# Altium integrated library National Semiconductor Interface.IntLib: 1433 symbols (part 42 of 51)
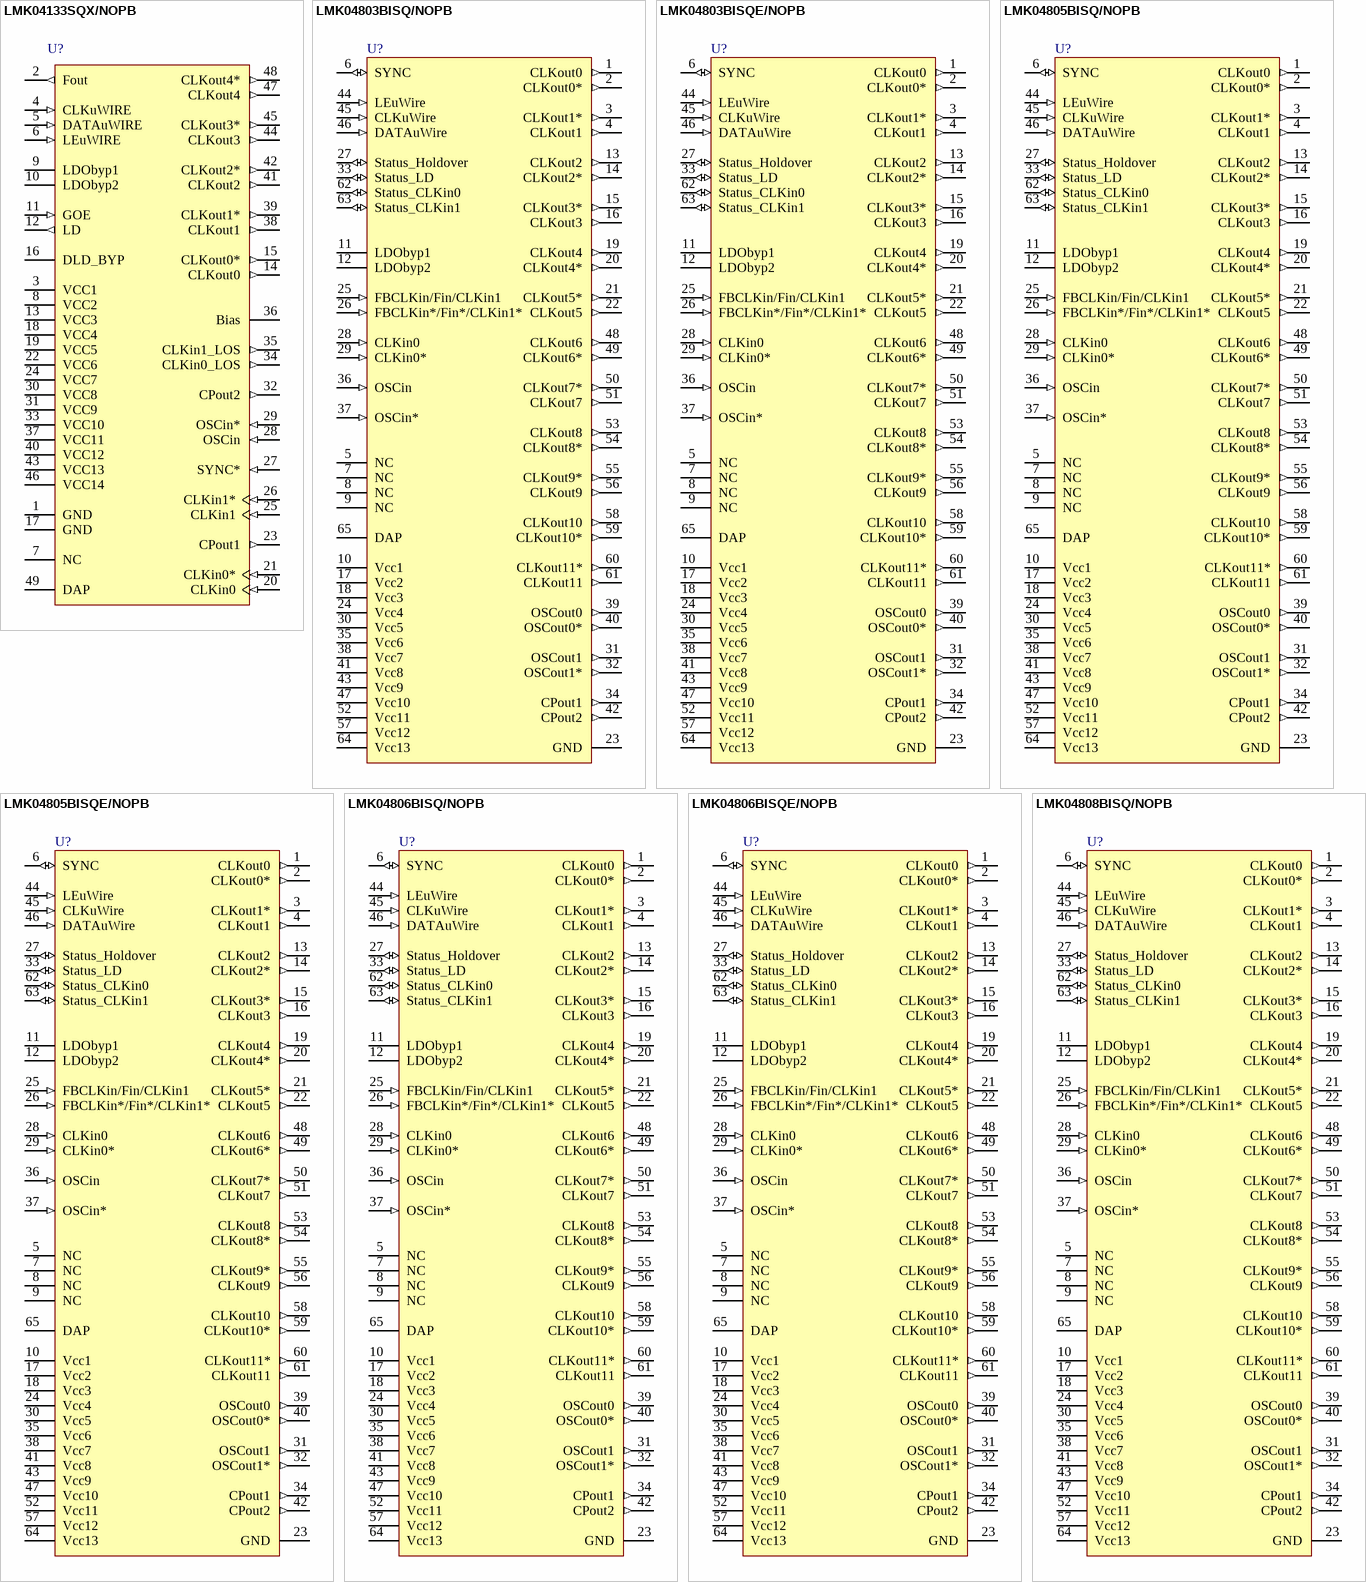
[diagram p165: symbols LMK04133SQX/NOPB to LMK04808BISQ/NOPB]

## LMK04806BISQE/NOPB
designator U?
Precision Clock Conditioners Low-Noise Clock Jitter Cleaner with Dual Loop PLLs, 2370-2600MHz VCO, 64-pin LLP, 250 Reel; PartNumber: LMK04806BISQE/NOPB; Manufacturer: National Semiconductor; PackageTopMarking: NS*UZXYTTE#*K04806BISQ; PowerWise: N; CompType: Interface IC; High-Reliability: Y; DatasheetVersion: Mar-2011; PackageVersion: revA, Apr-2006; PackageReference: SQA64A; PackageDescription: LLP, Quad, 9 x 9 x 0.8mm, 64 Lead, 0.5mm Pitch, No Pullback; RoHS: Y; PinCount: 64; ComponentLink1Description: Manufacturer URL; ComponentLink1URL: http://www.national.com/; ComponentLink2Description: LMK04800 Datasheet; ComponentLink2URL: http://www.national.com/ds/LM/LMK04800.pdf; ComponentLink3Description: LMK04800 Web Page; ComponentLink3URL: http://www.national.com/pf/LM/LMK04800.html; ComponentLink4Description: SQA64A Package Page; ComponentLink4URL: http://www.national.com/packaging/folders/sqa64a.html
footprint SQA64A (QFN, 64-Leads, Body 9x9mm, Pitch 0.5mm, Thermal Pad 7.2x7.2mm, NSC Recommended)
pins: 1 CLKout0 (out) "Clock output 0 (clock group 0).", 2 CLKout0* (out) "Clock output 0 (clock group 0).", 3 CLKout1* (out) "Clock output 1 (clock group 0).", 4 CLKout1 (out) "Clock output 1 (clock group 0).", 5 NC (power) "No Connection. This pin must be left floating.", 6 SYNC (io) "CLKout Synchronization input or programmable status pin.", 7 NC (power) "No Connection. This pin must be left floating.", 8 NC (power) "No Connection. This pin must be left floating.", 9 NC (power) "No Connection. This pin must be left floating.", 10 Vcc1 (power) "Power supply for VCO LDO.", 11 LDObyp1 (power) "LDO Bypass, bypassed to ground with 10 µF capacitor.", 12 LDObyp2 (power) "LDO Bypass, bypassed to ground with a 0.1 µF capacitor.", 13 CLKout2 (out) "Clock output 2 (clock group 1).", 14 CLKout2* (out) "Clock output 2 (clock group 1).", 15 CLKout3* (out) "Clock output 3 (clock group 1).", 16 CLKout3 (out) "Clock output 3 (clock group 1).", 17 Vcc2 (power) "Power supply for clock group 1: CLKout2 and CLKout3.", 18 Vcc3 (power) "Power supply for clock group 2: CLKout4 and CLKout5.", 19 CLKout4 (out) "Clock output 4 (clock group 2).", 20 CLKout4* (out) "Clock output 4 (clock group 2).", 21 CLKout5* (out) "Clock output 5 (clock group 2).", 22 CLKout5 (out) "Clock output 5 (clock group 2).", 23 GND (power) "Ground", 24 Vcc4 (power) "Power supply for digital.", 25 FBCLKin/Fin/CLKin1 (in) "Reference Clock Input Port 1 for PLL1. Feedback input for external clock feedback input (0-delay mode). External VCO input (External VCO mode). AC or DC Coupled.", 26 FBCLKin*/Fin*/CLKin1* (in) "Reference Clock Input Port 1 for PLL1. Feedback input for external clock feedback input (0-delay mode). External VCO input (External VCO mode). AC or DC Coupled.", 27 Status_Holdover (io) "Programmable status pin, default readback output. Programmable to holdover mode indicator.", 28 CLKin0 (in) "Reference Clock Input Port 0 for PLL1. AC or DC Coupled.", 29 CLKin0* (in) "Reference Clock Input Port 0 for PLL1. AC or DC Coupled.", 30 Vcc5 (power) "Power supply for clock inputs.", 31 OSCout1 (out) "Buffered output 1 of OSCin port.", 32 OSCout1* (out) "Buffered output 1 of OSCin port.", 33 Status_LD (io) "Programmable status pin, default lock detect for PLL1 and PLL2.", 34 CPout1 (out) "Charge pump 1 output.", 35 Vcc6 (power) "Power supply for PLL1, charge pump 1.", 36 OSCin (in) "Feedback to PLL1, Reference input to PLL2. AC Coupled.", 37 OSCin* (in) "Feedback to PLL1, Reference input to PLL2. AC Coupled.", 38 Vcc7 (power) "Power supply for OSCin port.", 39 OSCout0 (out) "Buffered output 0 of OSCin port.", 40 OSCout0* (out) "Buffered output 0 of OSCin port.", 41 Vcc8 (power) "Power supply for PLL2, charge pump 2.", 42 CPout2 (out) "Charge pump 2 output.", 43 Vcc9 (power) "Power supply for PLL2.", 44 LEuWire (in) "MICROWIRE Latch Enable Input.", 45 CLKuWire (in) "MICROWIRE Clock Input.", 46 DATAuWire (in) "MICROWIRE Data Input.", 47 Vcc10 (power) "Power supply for clock group 3: CLKout6 and CLKout7.", 48 CLKout6 (out) "Clock output 6 (clock group 3).", 49 CLKout6* (out) "Clock output 6 (clock group 3).", 50 CLKout7* (out) "Clock output 7 (clock group 3).", 51 CLKout7 (out) "Clock output 7 (clock group 3).", 52 Vcc11 (power) "Power supply for clock group 4: CLKout8 and CLKout9.", 53 CLKout8 (out) "Clock output 8 (clock group 4).", 54 CLKout8* (out) "Clock output 8 (clock group 4).", 55 CLKout9* (out) "Clock output 9 (clock group 4).", 56 CLKout9 (out) "Clock output 9 (clock group 4).", 57 Vcc12 (power) "Power supply for clock group 5: CLKout10 and CLKout11.", 58 CLKout10 (out) "Clock output 10 (clock group 5).", 59 CLKout10* (out) "Clock output 10 (clock group 5).", 60 CLKout11* (out) "Clock output 11 (clock group 5).", 61 CLKout11 (out) "Clock output 11 (clock group 5).", 62 Status_CLKin0 (io) "Programmable status pin. Default is input for pin control of PLL1 reference clock selection.", 63 Status_CLKin1 (io) "Programmable status pin. Default is input for pin control of PLL1 reference clock selection.", 64 Vcc13 (power) "Power supply for clock group 0: CLKout0 and CLKout1.", 65 DAP (power) "Die attach pad, connect to GND."

## LMK04808BISQ/NOPB
designator U?
Precision Clock Conditioners Low-Noise Clock Jitter Cleaner with Dual Loop PLLs, 2750-3072MHz VCO, 64-pin LLP, 1000 Reel; PartNumber: LMK04808BISQ/NOPB; Manufacturer: National Semiconductor; PackageTopMarking: NS*UZXYTTE#*K04808BISQ; PowerWise: N; CompType: Interface IC; High-Reliability: Y; DatasheetVersion: Mar-2011; PackageVersion: revA, Apr-2006; PackageReference: SQA64A; PackageDescription: LLP, Quad, 9 x 9 x 0.8mm, 64 Lead, 0.5mm Pitch, No Pullback; RoHS: Y; PinCount: 64; ComponentLink1Description: Manufacturer URL; ComponentLink1URL: http://www.national.com/; ComponentLink2Description: LMK04800 Datasheet; ComponentLink2URL: http://www.national.com/ds/LM/LMK04800.pdf; ComponentLink3Description: LMK04800 Web Page; ComponentLink3URL: http://www.national.com/pf/LM/LMK04800.html; ComponentLink4Description: SQA64A Package Page; ComponentLink4URL: http://www.national.com/packaging/folders/sqa64a.html
footprint SQA64A (QFN, 64-Leads, Body 9x9mm, Pitch 0.5mm, Thermal Pad 7.2x7.2mm, NSC Recommended)
pins: 1 CLKout0 (out) "Clock output 0 (clock group 0).", 2 CLKout0* (out) "Clock output 0 (clock group 0).", 3 CLKout1* (out) "Clock output 1 (clock group 0).", 4 CLKout1 (out) "Clock output 1 (clock group 0).", 5 NC (power) "No Connection. This pin must be left floating.", 6 SYNC (io) "CLKout Synchronization input or programmable status pin.", 7 NC (power) "No Connection. This pin must be left floating.", 8 NC (power) "No Connection. This pin must be left floating.", 9 NC (power) "No Connection. This pin must be left floating.", 10 Vcc1 (power) "Power supply for VCO LDO.", 11 LDObyp1 (power) "LDO Bypass, bypassed to ground with 10 µF capacitor.", 12 LDObyp2 (power) "LDO Bypass, bypassed to ground with a 0.1 µF capacitor.", 13 CLKout2 (out) "Clock output 2 (clock group 1).", 14 CLKout2* (out) "Clock output 2 (clock group 1).", 15 CLKout3* (out) "Clock output 3 (clock group 1).", 16 CLKout3 (out) "Clock output 3 (clock group 1).", 17 Vcc2 (power) "Power supply for clock group 1: CLKout2 and CLKout3.", 18 Vcc3 (power) "Power supply for clock group 2: CLKout4 and CLKout5.", 19 CLKout4 (out) "Clock output 4 (clock group 2).", 20 CLKout4* (out) "Clock output 4 (clock group 2).", 21 CLKout5* (out) "Clock output 5 (clock group 2).", 22 CLKout5 (out) "Clock output 5 (clock group 2).", 23 GND (power) "Ground", 24 Vcc4 (power) "Power supply for digital.", 25 FBCLKin/Fin/CLKin1 (in) "Reference Clock Input Port 1 for PLL1. Feedback input for external clock feedback input (0-delay mode). External VCO input (External VCO mode). AC or DC Coupled.", 26 FBCLKin*/Fin*/CLKin1* (in) "Reference Clock Input Port 1 for PLL1. Feedback input for external clock feedback input (0-delay mode). External VCO input (External VCO mode). AC or DC Coupled.", 27 Status_Holdover (io) "Programmable status pin, default readback output. Programmable to holdover mode indicator.", 28 CLKin0 (in) "Reference Clock Input Port 0 for PLL1. AC or DC Coupled.", 29 CLKin0* (in) "Reference Clock Input Port 0 for PLL1. AC or DC Coupled.", 30 Vcc5 (power) "Power supply for clock inputs.", 31 OSCout1 (out) "Buffered output 1 of OSCin port.", 32 OSCout1* (out) "Buffered output 1 of OSCin port.", 33 Status_LD (io) "Programmable status pin, default lock detect for PLL1 and PLL2.", 34 CPout1 (out) "Charge pump 1 output.", 35 Vcc6 (power) "Power supply for PLL1, charge pump 1.", 36 OSCin (in) "Feedback to PLL1, Reference input to PLL2. AC Coupled.", 37 OSCin* (in) "Feedback to PLL1, Reference input to PLL2. AC Coupled.", 38 Vcc7 (power) "Power supply for OSCin port.", 39 OSCout0 (out) "Buffered output 0 of OSCin port.", 40 OSCout0* (out) "Buffered output 0 of OSCin port.", 41 Vcc8 (power) "Power supply for PLL2, charge pump 2.", 42 CPout2 (out) "Charge pump 2 output.", 43 Vcc9 (power) "Power supply for PLL2.", 44 LEuWire (in) "MICROWIRE Latch Enable Input.", 45 CLKuWire (in) "MICROWIRE Clock Input.", 46 DATAuWire (in) "MICROWIRE Data Input.", 47 Vcc10 (power) "Power supply for clock group 3: CLKout6 and CLKout7.", 48 CLKout6 (out) "Clock output 6 (clock group 3).", 49 CLKout6* (out) "Clock output 6 (clock group 3).", 50 CLKout7* (out) "Clock output 7 (clock group 3).", 51 CLKout7 (out) "Clock output 7 (clock group 3).", 52 Vcc11 (power) "Power supply for clock group 4: CLKout8 and CLKout9.", 53 CLKout8 (out) "Clock output 8 (clock group 4).", 54 CLKout8* (out) "Clock output 8 (clock group 4).", 55 CLKout9* (out) "Clock output 9 (clock group 4).", 56 CLKout9 (out) "Clock output 9 (clock group 4).", 57 Vcc12 (power) "Power supply for clock group 5: CLKout10 and CLKout11.", 58 CLKout10 (out) "Clock output 10 (clock group 5).", 59 CLKout10* (out) "Clock output 10 (clock group 5).", 60 CLKout11* (out) "Clock output 11 (clock group 5).", 61 CLKout11 (out) "Clock output 11 (clock group 5).", 62 Status_CLKin0 (io) "Programmable status pin. Default is input for pin control of PLL1 reference clock selection.", 63 Status_CLKin1 (io) "Programmable status pin. Default is input for pin control of PLL1 reference clock selection.", 64 Vcc13 (power) "Power supply for clock group 0: CLKout0 and CLKout1.", 65 DAP (power) "Die attach pad, connect to GND."

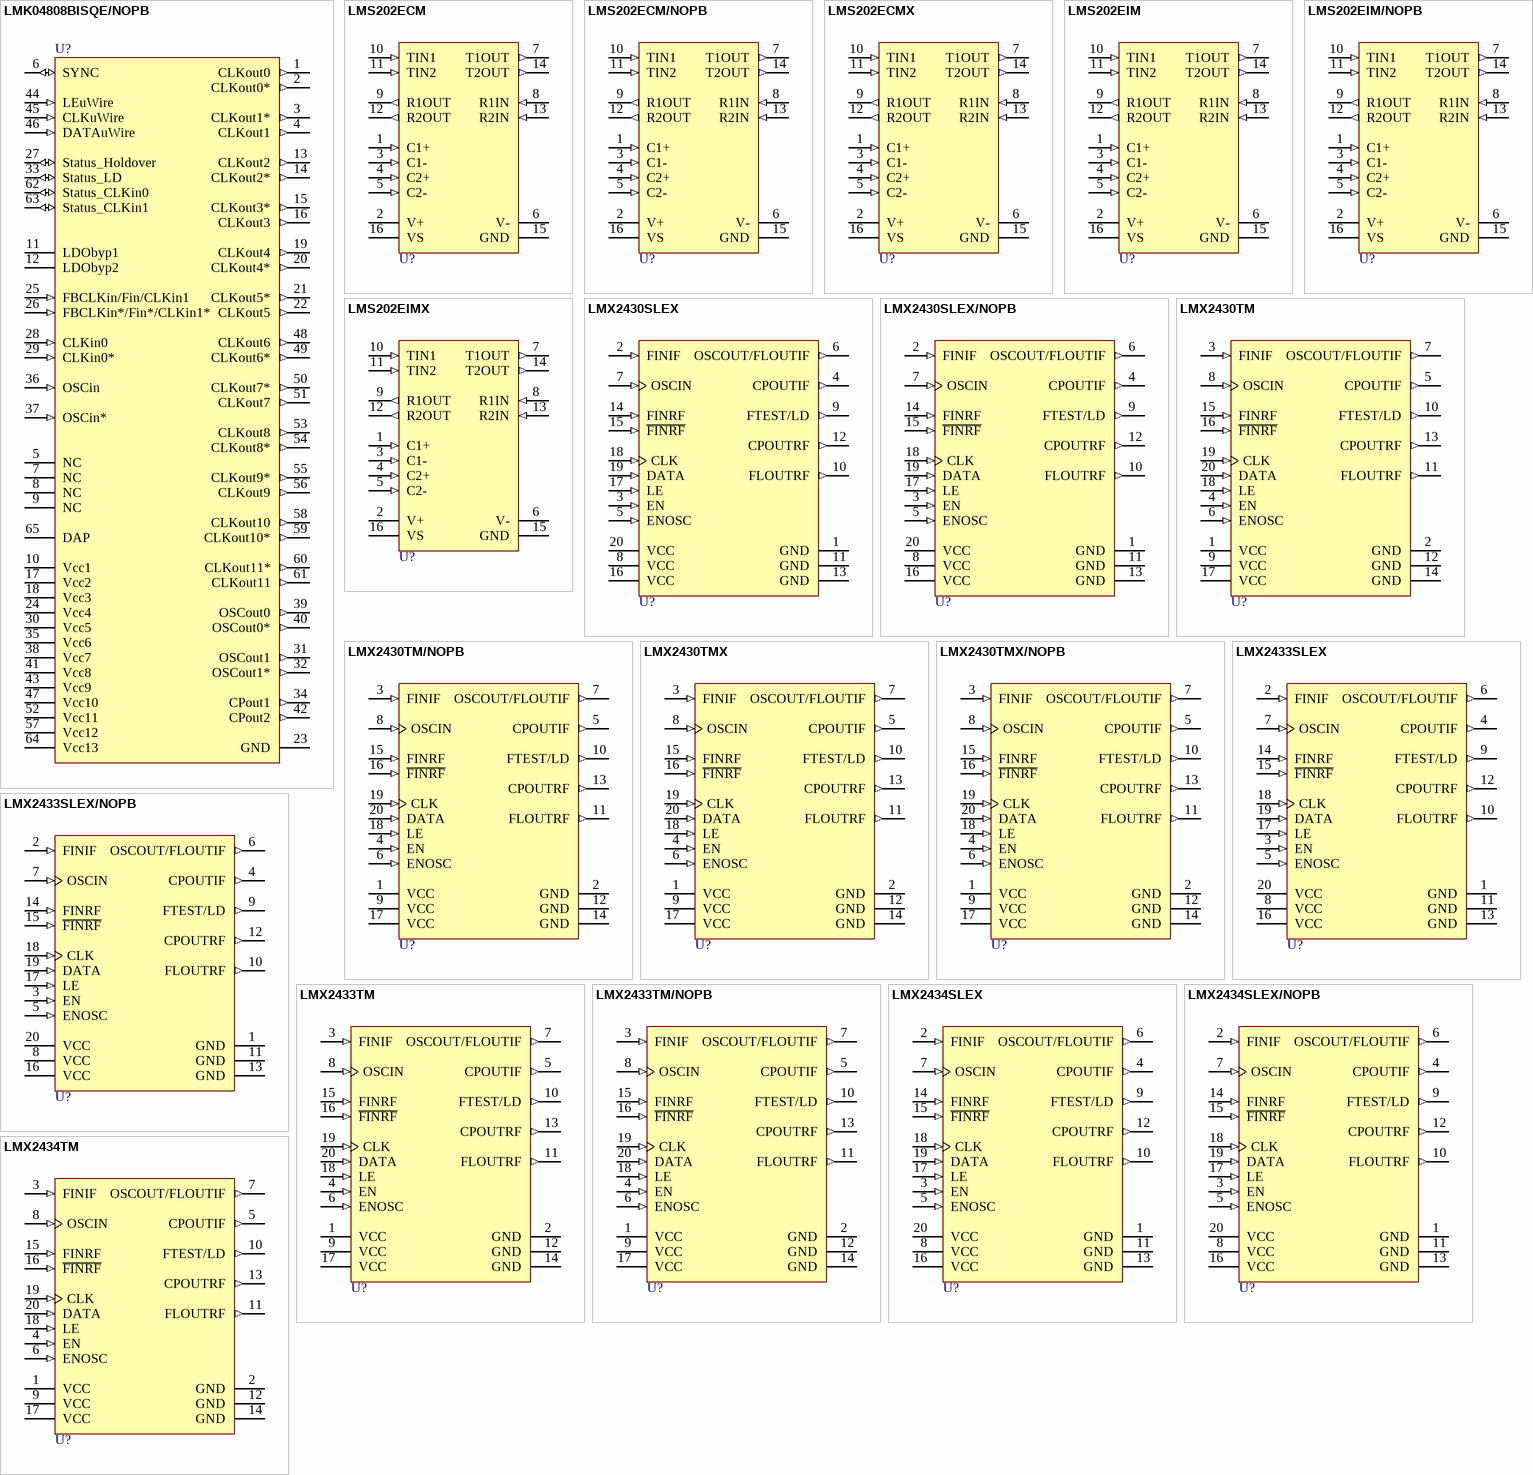
[diagram p103: symbols LMK04808BISQE/NOPB to LMX2434TM]

## LMK04808BISQE/NOPB
designator U?
Precision Clock Conditioners Low-Noise Clock Jitter Cleaner with Dual Loop PLLs, 2750-3072MHz VCO, 64-pin LLP, 250 Reel; PartNumber: LMK04808BISQE/NOPB; Manufacturer: National Semiconductor; PackageTopMarking: NS*UZXYTTE#*K04808BISQ; PowerWise: N; CompType: Interface IC; High-Reliability: Y; DatasheetVersion: Mar-2011; PackageVersion: revA, Apr-2006; PackageReference: SQA64A; PackageDescription: LLP, Quad, 9 x 9 x 0.8mm, 64 Lead, 0.5mm Pitch, No Pullback; RoHS: Y; PinCount: 64; ComponentLink1Description: Manufacturer URL; ComponentLink1URL: http://www.national.com/; ComponentLink2Description: LMK04800 Datasheet; ComponentLink2URL: http://www.national.com/ds/LM/LMK04800.pdf; ComponentLink3Description: LMK04800 Web Page; ComponentLink3URL: http://www.national.com/pf/LM/LMK04800.html; ComponentLink4Description: SQA64A Package Page; ComponentLink4URL: http://www.national.com/packaging/folders/sqa64a.html
footprint SQA64A (QFN, 64-Leads, Body 9x9mm, Pitch 0.5mm, Thermal Pad 7.2x7.2mm, NSC Recommended)
pins: 1 CLKout0 (out) "Clock output 0 (clock group 0).", 2 CLKout0* (out) "Clock output 0 (clock group 0).", 3 CLKout1* (out) "Clock output 1 (clock group 0).", 4 CLKout1 (out) "Clock output 1 (clock group 0).", 5 NC (power) "No Connection. This pin must be left floating.", 6 SYNC (io) "CLKout Synchronization input or programmable status pin.", 7 NC (power) "No Connection. This pin must be left floating.", 8 NC (power) "No Connection. This pin must be left floating.", 9 NC (power) "No Connection. This pin must be left floating.", 10 Vcc1 (power) "Power supply for VCO LDO.", 11 LDObyp1 (power) "LDO Bypass, bypassed to ground with 10 µF capacitor.", 12 LDObyp2 (power) "LDO Bypass, bypassed to ground with a 0.1 µF capacitor.", 13 CLKout2 (out) "Clock output 2 (clock group 1).", 14 CLKout2* (out) "Clock output 2 (clock group 1).", 15 CLKout3* (out) "Clock output 3 (clock group 1).", 16 CLKout3 (out) "Clock output 3 (clock group 1).", 17 Vcc2 (power) "Power supply for clock group 1: CLKout2 and CLKout3.", 18 Vcc3 (power) "Power supply for clock group 2: CLKout4 and CLKout5.", 19 CLKout4 (out) "Clock output 4 (clock group 2).", 20 CLKout4* (out) "Clock output 4 (clock group 2).", 21 CLKout5* (out) "Clock output 5 (clock group 2).", 22 CLKout5 (out) "Clock output 5 (clock group 2).", 23 GND (power) "Ground", 24 Vcc4 (power) "Power supply for digital.", 25 FBCLKin/Fin/CLKin1 (in) "Reference Clock Input Port 1 for PLL1. Feedback input for external clock feedback input (0-delay mode). External VCO input (External VCO mode). AC or DC Coupled.", 26 FBCLKin*/Fin*/CLKin1* (in) "Reference Clock Input Port 1 for PLL1. Feedback input for external clock feedback input (0-delay mode). External VCO input (External VCO mode). AC or DC Coupled.", 27 Status_Holdover (io) "Programmable status pin, default readback output. Programmable to holdover mode indicator.", 28 CLKin0 (in) "Reference Clock Input Port 0 for PLL1. AC or DC Coupled.", 29 CLKin0* (in) "Reference Clock Input Port 0 for PLL1. AC or DC Coupled.", 30 Vcc5 (power) "Power supply for clock inputs.", 31 OSCout1 (out) "Buffered output 1 of OSCin port.", 32 OSCout1* (out) "Buffered output 1 of OSCin port.", 33 Status_LD (io) "Programmable status pin, default lock detect for PLL1 and PLL2.", 34 CPout1 (out) "Charge pump 1 output.", 35 Vcc6 (power) "Power supply for PLL1, charge pump 1.", 36 OSCin (in) "Feedback to PLL1, Reference input to PLL2. AC Coupled.", 37 OSCin* (in) "Feedback to PLL1, Reference input to PLL2. AC Coupled.", 38 Vcc7 (power) "Power supply for OSCin port.", 39 OSCout0 (out) "Buffered output 0 of OSCin port.", 40 OSCout0* (out) "Buffered output 0 of OSCin port.", 41 Vcc8 (power) "Power supply for PLL2, charge pump 2.", 42 CPout2 (out) "Charge pump 2 output.", 43 Vcc9 (power) "Power supply for PLL2.", 44 LEuWire (in) "MICROWIRE Latch Enable Input.", 45 CLKuWire (in) "MICROWIRE Clock Input.", 46 DATAuWire (in) "MICROWIRE Data Input.", 47 Vcc10 (power) "Power supply for clock group 3: CLKout6 and CLKout7.", 48 CLKout6 (out) "Clock output 6 (clock group 3).", 49 CLKout6* (out) "Clock output 6 (clock group 3).", 50 CLKout7* (out) "Clock output 7 (clock group 3).", 51 CLKout7 (out) "Clock output 7 (clock group 3).", 52 Vcc11 (power) "Power supply for clock group 4: CLKout8 and CLKout9.", 53 CLKout8 (out) "Clock output 8 (clock group 4).", 54 CLKout8* (out) "Clock output 8 (clock group 4).", 55 CLKout9* (out) "Clock output 9 (clock group 4).", 56 CLKout9 (out) "Clock output 9 (clock group 4).", 57 Vcc12 (power) "Power supply for clock group 5: CLKout10 and CLKout11.", 58 CLKout10 (out) "Clock output 10 (clock group 5).", 59 CLKout10* (out) "Clock output 10 (clock group 5).", 60 CLKout11* (out) "Clock output 11 (clock group 5).", 61 CLKout11 (out) "Clock output 11 (clock group 5).", 62 Status_CLKin0 (io) "Programmable status pin. Default is input for pin control of PLL1 reference clock selection.", 63 Status_CLKin1 (io) "Programmable status pin. Default is input for pin control of PLL1 reference clock selection.", 64 Vcc13 (power) "Power supply for clock group 0: CLKout0 and CLKout1.", 65 DAP (power) "Die attach pad, connect to GND."

## LMS202ECM
designator U?
15KV ESD Rated, 5V Single Supply TIA/EIA-232 Dual Transceivers, 16-pin Narrow SOIC; PartNumber: LMS202ECM; Manufacturer: National Semiconductor; PackageTopMarking: NSUZXYTTE#*LMS202ECM; PowerWise: N; CompType: Interface IC; High-Reliability: Y; DatasheetVersion: Mar-2003; PackageVersion: revJ, Aug-1995; PackageReference: M16A; PackageDescription: Molded Package, SO, .150in Wide, 16 Lead; RoHS: N; PinCount: 16; Code_JEDEC: MS-012-AC; Code_IPC: SOIC127P600-16; ComponentLink1Description: Manufacturer URL; ComponentLink1URL: http://www.national.com/; ComponentLink2Description: LMS202E Datasheet; ComponentLink2URL: http://www.national.com/ds/LM/LMS202E.pdf; ComponentLink3Description: LMS202E Web Page; ComponentLink3URL: http://www.national.com/pf/LM/LMS202E.html; ComponentLink4Description: M16A Package Page; ComponentLink4URL: http://www.national.com/packaging/folders/m16a.html
footprint M16A_N (SOIC, 16-Leads, Body 9.9x3.9mm, Pitch 1.27mm, IPC Medium Density)
footprint M16A_L (SOIC, 16-Leads, Body 9.9x3.9mm, Pitch 1.27mm, IPC High Density)
footprint M16A_M (SOIC, 16-Leads, Body 9.9x3.9mm, Pitch 1.27mm, IPC Low Density)
pins: 1 C1+ (in), 2 V+ (power), 3 C1- (in), 4 C2+ (in), 5 C2- (in), 6 V- (power), 7 T1OUT (out), 8 R1IN (in), 9 R1OUT (out), 10 TIN1 (in), 11 TIN2 (in), 12 R2OUT (out), 13 R2IN (in), 14 T2OUT (out), 15 GND (power), 16 VS (power)

## LMS202ECM/NOPB
designator U?
15KV ESD Rated, 5V Single Supply TIA/EIA-232 Dual Transceivers, 16-pin Narrow SOIC, Pb-Free; PartNumber: LMS202ECM/NOPB; Manufacturer: National Semiconductor; PackageTopMarking: NSUZXYTTE#*LMS202ECM; PowerWise: N; CompType: Interface IC; High-Reliability: Y; DatasheetVersion: Mar-2003; PackageVersion: revJ, Aug-1995; PackageReference: M16A; PackageDescription: Molded Package, SO, .150in Wide, 16 Lead; RoHS: Y; PinCount: 16; Code_JEDEC: MS-012-AC; Code_IPC: SOIC127P600-16; ComponentLink1Description: Manufacturer URL; ComponentLink1URL: http://www.national.com/; ComponentLink2Description: LMS202E Datasheet; ComponentLink2URL: http://www.national.com/ds/LM/LMS202E.pdf; ComponentLink3Description: LMS202E Web Page; ComponentLink3URL: http://www.national.com/pf/LM/LMS202E.html; ComponentLink4Description: M16A Package Page; ComponentLink4URL: http://www.national.com/packaging/folders/m16a.html
footprint M16A_N (SOIC, 16-Leads, Body 9.9x3.9mm, Pitch 1.27mm, IPC Medium Density)
footprint M16A_L (SOIC, 16-Leads, Body 9.9x3.9mm, Pitch 1.27mm, IPC High Density)
footprint M16A_M (SOIC, 16-Leads, Body 9.9x3.9mm, Pitch 1.27mm, IPC Low Density)
pins: 1 C1+ (in), 2 V+ (power), 3 C1- (in), 4 C2+ (in), 5 C2- (in), 6 V- (power), 7 T1OUT (out), 8 R1IN (in), 9 R1OUT (out), 10 TIN1 (in), 11 TIN2 (in), 12 R2OUT (out), 13 R2IN (in), 14 T2OUT (out), 15 GND (power), 16 VS (power)

## LMS202ECMX
designator U?
15KV ESD Rated, 5V Single Supply TIA/EIA-232 Dual Transceivers, 16-pin Narrow SOIC; PartNumber: LMS202ECMX; Manufacturer: National Semiconductor; PackageTopMarking: NSUZXYTTE#*LMS202ECM; PowerWise: N; CompType: Interface IC; High-Reliability: Y; DatasheetVersion: Mar-2003; PackageVersion: revJ, Aug-1995; PackageReference: M16A; PackageDescription: Molded Package, SO, .150in Wide, 16 Lead; RoHS: N; PinCount: 16; Code_JEDEC: MS-012-AC; Code_IPC: SOIC127P600-16; ComponentLink1Description: Manufacturer URL; ComponentLink1URL: http://www.national.com/; ComponentLink2Description: LMS202E Datasheet; ComponentLink2URL: http://www.national.com/ds/LM/LMS202E.pdf; ComponentLink3Description: LMS202E Web Page; ComponentLink3URL: http://www.national.com/pf/LM/LMS202E.html; ComponentLink4Description: M16A Package Page; ComponentLink4URL: http://www.national.com/packaging/folders/m16a.html
footprint M16A_N (SOIC, 16-Leads, Body 9.9x3.9mm, Pitch 1.27mm, IPC Medium Density)
footprint M16A_L (SOIC, 16-Leads, Body 9.9x3.9mm, Pitch 1.27mm, IPC High Density)
footprint M16A_M (SOIC, 16-Leads, Body 9.9x3.9mm, Pitch 1.27mm, IPC Low Density)
pins: 1 C1+ (in), 2 V+ (power), 3 C1- (in), 4 C2+ (in), 5 C2- (in), 6 V- (power), 7 T1OUT (out), 8 R1IN (in), 9 R1OUT (out), 10 TIN1 (in), 11 TIN2 (in), 12 R2OUT (out), 13 R2IN (in), 14 T2OUT (out), 15 GND (power), 16 VS (power)

## LMS202EIM
designator U?
15KV ESD Rated, 5V Single Supply TIA/EIA-232 Dual Transceivers, 16-pin Narrow SOIC; PartNumber: LMS202EIM; Manufacturer: National Semiconductor; PackageTopMarking: NSUZXYTTE#*LMS202EIM; PowerWise: N; CompType: Interface IC; High-Reliability: Y; DatasheetVersion: Mar-2003; PackageVersion: revJ, Aug-1995; PackageReference: M16A; PackageDescription: Molded Package, SO, .150in Wide, 16 Lead; RoHS: N; PinCount: 16; Code_JEDEC: MS-012-AC; Code_IPC: SOIC127P600-16; ComponentLink1Description: Manufacturer URL; ComponentLink1URL: http://www.national.com/; ComponentLink2Description: LMS202E Datasheet; ComponentLink2URL: http://www.national.com/ds/LM/LMS202E.pdf; ComponentLink3Description: LMS202E Web Page; ComponentLink3URL: http://www.national.com/pf/LM/LMS202E.html; ComponentLink4Description: M16A Package Page; ComponentLink4URL: http://www.national.com/packaging/folders/m16a.html
footprint M16A_N (SOIC, 16-Leads, Body 9.9x3.9mm, Pitch 1.27mm, IPC Medium Density)
footprint M16A_L (SOIC, 16-Leads, Body 9.9x3.9mm, Pitch 1.27mm, IPC High Density)
footprint M16A_M (SOIC, 16-Leads, Body 9.9x3.9mm, Pitch 1.27mm, IPC Low Density)
pins: 1 C1+ (in), 2 V+ (power), 3 C1- (in), 4 C2+ (in), 5 C2- (in), 6 V- (power), 7 T1OUT (out), 8 R1IN (in), 9 R1OUT (out), 10 TIN1 (in), 11 TIN2 (in), 12 R2OUT (out), 13 R2IN (in), 14 T2OUT (out), 15 GND (power), 16 VS (power)

## LMS202EIM/NOPB
designator U?
15KV ESD Rated, 5V Single Supply TIA/EIA-232 Dual Transceivers, 16-pin Narrow SOIC, Pb-Free; PartNumber: LMS202EIM/NOPB; Manufacturer: National Semiconductor; PackageTopMarking: NSUZXYTTE#*LMS202EIM; PowerWise: N; CompType: Interface IC; High-Reliability: Y; DatasheetVersion: Mar-2003; PackageVersion: revJ, Aug-1995; PackageReference: M16A; PackageDescription: Molded Package, SO, .150in Wide, 16 Lead; RoHS: Y; PinCount: 16; Code_JEDEC: MS-012-AC; Code_IPC: SOIC127P600-16; ComponentLink1Description: Manufacturer URL; ComponentLink1URL: http://www.national.com/; ComponentLink2Description: LMS202E Datasheet; ComponentLink2URL: http://www.national.com/ds/LM/LMS202E.pdf; ComponentLink3Description: LMS202E Web Page; ComponentLink3URL: http://www.national.com/pf/LM/LMS202E.html; ComponentLink4Description: M16A Package Page; ComponentLink4URL: http://www.national.com/packaging/folders/m16a.html
footprint M16A_N (SOIC, 16-Leads, Body 9.9x3.9mm, Pitch 1.27mm, IPC Medium Density)
footprint M16A_L (SOIC, 16-Leads, Body 9.9x3.9mm, Pitch 1.27mm, IPC High Density)
footprint M16A_M (SOIC, 16-Leads, Body 9.9x3.9mm, Pitch 1.27mm, IPC Low Density)
pins: 1 C1+ (in), 2 V+ (power), 3 C1- (in), 4 C2+ (in), 5 C2- (in), 6 V- (power), 7 T1OUT (out), 8 R1IN (in), 9 R1OUT (out), 10 TIN1 (in), 11 TIN2 (in), 12 R2OUT (out), 13 R2IN (in), 14 T2OUT (out), 15 GND (power), 16 VS (power)

## LMS202EIMX
designator U?
15KV ESD Rated, 5V Single Supply TIA/EIA-232 Dual Transceivers, 16-pin Narrow SOIC; PartNumber: LMS202EIMX; Manufacturer: National Semiconductor; PackageTopMarking: NSUZXYTTE#*LMS202EIM; PowerWise: N; CompType: Interface IC; High-Reliability: Y; DatasheetVersion: Mar-2003; PackageVersion: revJ, Aug-1995; PackageReference: M16A; PackageDescription: Molded Package, SO, .150in Wide, 16 Lead; RoHS: N; PinCount: 16; Code_JEDEC: MS-012-AC; Code_IPC: SOIC127P600-16; ComponentLink1Description: Manufacturer URL; ComponentLink1URL: http://www.national.com/; ComponentLink2Description: LMS202E Datasheet; ComponentLink2URL: http://www.national.com/ds/LM/LMS202E.pdf; ComponentLink3Description: LMS202E Web Page; ComponentLink3URL: http://www.national.com/pf/LM/LMS202E.html; ComponentLink4Description: M16A Package Page; ComponentLink4URL: http://www.national.com/packaging/folders/m16a.html
footprint M16A_N (SOIC, 16-Leads, Body 9.9x3.9mm, Pitch 1.27mm, IPC Medium Density)
footprint M16A_L (SOIC, 16-Leads, Body 9.9x3.9mm, Pitch 1.27mm, IPC High Density)
footprint M16A_M (SOIC, 16-Leads, Body 9.9x3.9mm, Pitch 1.27mm, IPC Low Density)
pins: 1 C1+ (in), 2 V+ (power), 3 C1- (in), 4 C2+ (in), 5 C2- (in), 6 V- (power), 7 T1OUT (out), 8 R1IN (in), 9 R1OUT (out), 10 TIN1 (in), 11 TIN2 (in), 12 R2OUT (out), 13 R2IN (in), 14 T2OUT (out), 15 GND (power), 16 VS (power)

## LMX2430SLEX
designator U?
3.0 GHz/0.8 GHz PLLatinum Dual High Frequency Synthesizer for RF Personal Communications, 20-pin Laminate UCSP; PartNumber: LMX2430SLEX; Manufacturer: National Semiconductor; PackageTopMarking: NSXYTT*X2430*SLE; PowerWise: N; CompType: Interface IC; High-Reliability: Y; DatasheetVersion: May-2003; PackageVersion: revA, Jun-2001; PackageReference: SLE20A; PackageDescription: Ultra TCSP, Plastic, Laminated, 3.5 x 3.5 x 0.6mm Body, 20 Lead, .5mm Pitch; RoHS: N; PinCount: 20; Code_JEDEC: MO-208-CCEA-1; ComponentLink1Description: Manufacturer URL; ComponentLink1URL: http://www.national.com/; ComponentLink2Description: LMX2430 Datasheet; ComponentLink2URL: http://www.national.com/ds/LM/LMX2430.pdf; ComponentLink3Description: LMX2430 Web Page; ComponentLink3URL: http://www.national.com/pf/LM/LMX2430.html; ComponentLink4Description: SLE20A Package Page; ComponentLink4URL: http://www.national.com/packaging/folders/sle20a.html
footprint SLE20A (PQFN, 20-Leads, Body 3.5x3.5mm, Pitch 0.5mm, NSC Recommended)
pins: 1 GND (power), 2 FINIF (in), 3 EN (in), 4 CPOUTIF (out), 5 ENOSC (in), 6 OSCOUT/FLOUTIF (out), 7 OSCIN (in), 8 VCC (power), 9 FTEST/LD (out), 10 FLOUTRF (out), 11 GND (power), 12 CPOUTRF (out), 13 GND (power), 14 FINRF (in), 15 ~{FINRF} (in), 16 VCC (power), 17 LE (in), 18 CLK (in), 19 DATA (in), 20 VCC (power)

## LMX2430SLEX/NOPB
designator U?
3.0 GHz/0.8 GHz PLLatinum Dual High Frequency Synthesizer for RF Personal Communications, 20-pin Laminate UCSP, Pb-Free; PartNumber: LMX2430SLEX/NOPB; Manufacturer: National Semiconductor; PackageTopMarking: NSXYTT*X2430*SLE; PowerWise: N; CompType: Interface IC; High-Reliability: Y; DatasheetVersion: May-2003; PackageVersion: revA, Jun-2001; PackageReference: SLE20A; PackageDescription: Ultra TCSP, Plastic, Laminated, 3.5 x 3.5 x 0.6mm Body, 20 Lead, .5mm Pitch; RoHS: Y; PinCount: 20; Code_JEDEC: MO-208-CCEA-1; ComponentLink1Description: Manufacturer URL; ComponentLink1URL: http://www.national.com/; ComponentLink2Description: LMX2430 Datasheet; ComponentLink2URL: http://www.national.com/ds/LM/LMX2430.pdf; ComponentLink3Description: LMX2430 Web Page; ComponentLink3URL: http://www.national.com/pf/LM/LMX2430.html; ComponentLink4Description: SLE20A Package Page; ComponentLink4URL: http://www.national.com/packaging/folders/sle20a.html
footprint SLE20A (PQFN, 20-Leads, Body 3.5x3.5mm, Pitch 0.5mm, NSC Recommended)
pins: 1 GND (power), 2 FINIF (in), 3 EN (in), 4 CPOUTIF (out), 5 ENOSC (in), 6 OSCOUT/FLOUTIF (out), 7 OSCIN (in), 8 VCC (power), 9 FTEST/LD (out), 10 FLOUTRF (out), 11 GND (power), 12 CPOUTRF (out), 13 GND (power), 14 FINRF (in), 15 ~{FINRF} (in), 16 VCC (power), 17 LE (in), 18 CLK (in), 19 DATA (in), 20 VCC (power)

## LMX2430TM
designator U?
3.0 GHz/0.8 GHz PLLatinum Dual High Frequency Synthesizer for RF Personal Communications, 20-pin TSSOP; PartNumber: LMX2430TM; Manufacturer: National Semiconductor; PackageTopMarking: NSUZXYTT*LMX2430*TMDD; PowerWise: N; CompType: Interface IC; High-Reliability: Y; DatasheetVersion: May-2003; PackageVersion: revE, Mar-2003; PackageReference: MTC20; PackageDescription: Molded TSSOP, Jedec, 6.5 x 4.4 x 0.9mm Body, 20 Lead, 0.65mm Pitch; RoHS: Y; PinCount: 20; Code_JEDEC: MO-153-AC; ComponentLink1Description: Manufacturer URL; ComponentLink1URL: http://www.national.com/; ComponentLink2Description: LMX2430 Datasheet; ComponentLink2URL: http://www.national.com/ds/LM/LMX2430.pdf; ComponentLink3Description: LMX2430 Web Page; ComponentLink3URL: http://www.national.com/pf/LM/LMX2430.html; ComponentLink4Description: MTC20 Package Page; ComponentLink4URL: http://www.national.com/packaging/folders/mtc20.html
footprint MTC20_N (TSOP, 20-Leads, Body 6.5x4.4mm, Pitch 0.65mm, IPC Medium Density)
footprint MTC20_L (TSOP, 20-Leads, Body 6.5x4.4mm, Pitch 0.65mm, IPC High Density)
footprint MTC20_M (TSOP, 20-Leads, Body 6.5x4.4mm, Pitch 0.65mm, IPC Low Density)
pins: 1 VCC (power), 2 GND (power), 3 FINIF (in), 4 EN (in), 5 CPOUTIF (out), 6 ENOSC (in), 7 OSCOUT/FLOUTIF (out), 8 OSCIN (in), 9 VCC (power), 10 FTEST/LD (out), 11 FLOUTRF (out), 12 GND (power), 13 CPOUTRF (out), 14 GND (power), 15 FINRF (in), 16 ~{FINRF} (in), 17 VCC (power), 18 LE (in), 19 CLK (in), 20 DATA (in)

## LMX2430TM/NOPB
designator U?
3.0 GHz/0.8 GHz PLLatinum Dual High Frequency Synthesizer for RF Personal Communications, 20-pin TSSOP, Pb-Free; PartNumber: LMX2430TM/NOPB; Manufacturer: National Semiconductor; PackageTopMarking: NSUZXYTT*LMX2430*TMDD; PowerWise: N; CompType: Interface IC; High-Reliability: Y; DatasheetVersion: May-2003; PackageVersion: revE, Mar-2003; PackageReference: MTC20; PackageDescription: Molded TSSOP, Jedec, 6.5 x 4.4 x 0.9mm Body, 20 Lead, 0.65mm Pitch; RoHS: Y; PinCount: 20; Code_JEDEC: MO-153-AC; ComponentLink1Description: Manufacturer URL; ComponentLink1URL: http://www.national.com/; ComponentLink2Description: LMX2430 Datasheet; ComponentLink2URL: http://www.national.com/ds/LM/LMX2430.pdf; ComponentLink3Description: LMX2430 Web Page; ComponentLink3URL: http://www.national.com/pf/LM/LMX2430.html; ComponentLink4Description: MTC20 Package Page; ComponentLink4URL: http://www.national.com/packaging/folders/mtc20.html
footprint MTC20_N (TSOP, 20-Leads, Body 6.5x4.4mm, Pitch 0.65mm, IPC Medium Density)
footprint MTC20_L (TSOP, 20-Leads, Body 6.5x4.4mm, Pitch 0.65mm, IPC High Density)
footprint MTC20_M (TSOP, 20-Leads, Body 6.5x4.4mm, Pitch 0.65mm, IPC Low Density)
pins: 1 VCC (power), 2 GND (power), 3 FINIF (in), 4 EN (in), 5 CPOUTIF (out), 6 ENOSC (in), 7 OSCOUT/FLOUTIF (out), 8 OSCIN (in), 9 VCC (power), 10 FTEST/LD (out), 11 FLOUTRF (out), 12 GND (power), 13 CPOUTRF (out), 14 GND (power), 15 FINRF (in), 16 ~{FINRF} (in), 17 VCC (power), 18 LE (in), 19 CLK (in), 20 DATA (in)

## LMX2430TMX
designator U?
3.0 GHz/0.8 GHz PLLatinum Dual High Frequency Synthesizer for RF Personal Communications, 20-pin TSSOP; PartNumber: LMX2430TMX; Manufacturer: National Semiconductor; PackageTopMarking: NSUZXYTT*LMX2430*TMDD; PowerWise: N; CompType: Interface IC; High-Reliability: Y; DatasheetVersion: May-2003; PackageVersion: revE, Mar-2003; PackageReference: MTC20; PackageDescription: Molded TSSOP, Jedec, 6.5 x 4.4 x 0.9mm Body, 20 Lead, 0.65mm Pitch; RoHS: N; PinCount: 20; Code_JEDEC: MO-153-AC; ComponentLink1Description: Manufacturer URL; ComponentLink1URL: http://www.national.com/; ComponentLink2Description: LMX2430 Datasheet; ComponentLink2URL: http://www.national.com/ds/LM/LMX2430.pdf; ComponentLink3Description: LMX2430 Web Page; ComponentLink3URL: http://www.national.com/pf/LM/LMX2430.html; ComponentLink4Description: MTC20 Package Page; ComponentLink4URL: http://www.national.com/packaging/folders/mtc20.html
footprint MTC20_N (TSOP, 20-Leads, Body 6.5x4.4mm, Pitch 0.65mm, IPC Medium Density)
footprint MTC20_L (TSOP, 20-Leads, Body 6.5x4.4mm, Pitch 0.65mm, IPC High Density)
footprint MTC20_M (TSOP, 20-Leads, Body 6.5x4.4mm, Pitch 0.65mm, IPC Low Density)
pins: 1 VCC (power), 2 GND (power), 3 FINIF (in), 4 EN (in), 5 CPOUTIF (out), 6 ENOSC (in), 7 OSCOUT/FLOUTIF (out), 8 OSCIN (in), 9 VCC (power), 10 FTEST/LD (out), 11 FLOUTRF (out), 12 GND (power), 13 CPOUTRF (out), 14 GND (power), 15 FINRF (in), 16 ~{FINRF} (in), 17 VCC (power), 18 LE (in), 19 CLK (in), 20 DATA (in)

## LMX2430TMX/NOPB
designator U?
3.0 GHz/0.8 GHz PLLatinum Dual High Frequency Synthesizer for RF Personal Communications, 20-pin TSSOP, Pb-Free; PartNumber: LMX2430TMX/NOPB; Manufacturer: National Semiconductor; PackageTopMarking: NSUZXYTT*LMX2430*TMDD; PowerWise: N; CompType: Interface IC; High-Reliability: Y; DatasheetVersion: May-2003; PackageVersion: revE, Mar-2003; PackageReference: MTC20; PackageDescription: Molded TSSOP, Jedec, 6.5 x 4.4 x 0.9mm Body, 20 Lead, 0.65mm Pitch; RoHS: Y; PinCount: 20; Code_JEDEC: MO-153-AC; ComponentLink1Description: Manufacturer URL; ComponentLink1URL: http://www.national.com/; ComponentLink2Description: LMX2430 Datasheet; ComponentLink2URL: http://www.national.com/ds/LM/LMX2430.pdf; ComponentLink3Description: LMX2430 Web Page; ComponentLink3URL: http://www.national.com/pf/LM/LMX2430.html; ComponentLink4Description: MTC20 Package Page; ComponentLink4URL: http://www.national.com/packaging/folders/mtc20.html
footprint MTC20_N (TSOP, 20-Leads, Body 6.5x4.4mm, Pitch 0.65mm, IPC Medium Density)
footprint MTC20_L (TSOP, 20-Leads, Body 6.5x4.4mm, Pitch 0.65mm, IPC High Density)
footprint MTC20_M (TSOP, 20-Leads, Body 6.5x4.4mm, Pitch 0.65mm, IPC Low Density)
pins: 1 VCC (power), 2 GND (power), 3 FINIF (in), 4 EN (in), 5 CPOUTIF (out), 6 ENOSC (in), 7 OSCOUT/FLOUTIF (out), 8 OSCIN (in), 9 VCC (power), 10 FTEST/LD (out), 11 FLOUTRF (out), 12 GND (power), 13 CPOUTRF (out), 14 GND (power), 15 FINRF (in), 16 ~{FINRF} (in), 17 VCC (power), 18 LE (in), 19 CLK (in), 20 DATA (in)

## LMX2433SLEX
designator U?
3.6 GHz/1.7 GHz PLLatinum Dual High Frequency Synthesizer for RF Personal Communications, 20-pin Laminate UCSP; PartNumber: LMX2433SLEX; Manufacturer: National Semiconductor; PackageTopMarking: NSXYTT*X2433*SLE; PowerWise: N; CompType: Interface IC; High-Reliability: Y; DatasheetVersion: May-2003; PackageVersion: revA, Jun-2001; PackageReference: SLE20A; PackageDescription: Ultra TCSP, Plastic, Laminated, 3.5 x 3.5 x 0.6mm Body, 20 Lead, .5mm Pitch; RoHS: N; PinCount: 20; Code_JEDEC: MO-208-CCEA-1; ComponentLink1Description: Manufacturer URL; ComponentLink1URL: http://www.national.com/; ComponentLink2Description: LMX2433 Datasheet; ComponentLink2URL: http://www.national.com/ds/LM/LMX2433.pdf; ComponentLink3Description: LMX2433 Web Page; ComponentLink3URL: http://www.national.com/pf/LM/LMX2433.html; ComponentLink4Description: SLE20A Package Page; ComponentLink4URL: http://www.national.com/packaging/folders/sle20a.html
footprint SLE20A (PQFN, 20-Leads, Body 3.5x3.5mm, Pitch 0.5mm, NSC Recommended)
pins: 1 GND (power), 2 FINIF (in), 3 EN (in), 4 CPOUTIF (out), 5 ENOSC (in), 6 OSCOUT/FLOUTIF (out), 7 OSCIN (in), 8 VCC (power), 9 FTEST/LD (out), 10 FLOUTRF (out), 11 GND (power), 12 CPOUTRF (out), 13 GND (power), 14 FINRF (in), 15 ~{FINRF} (in), 16 VCC (power), 17 LE (in), 18 CLK (in), 19 DATA (in), 20 VCC (power)

## LMX2433SLEX/NOPB
designator U?
3.6 GHz/1.7 GHz PLLatinum Dual High Frequency Synthesizer for RF Personal Communications, 20-pin Laminate UCSP, Pb-Free; PartNumber: LMX2433SLEX/NOPB; Manufacturer: National Semiconductor; PackageTopMarking: NSXYTT*X2433*SLE; PowerWise: N; CompType: Interface IC; High-Reliability: Y; DatasheetVersion: May-2003; PackageVersion: revA, Jun-2001; PackageReference: SLE20A; PackageDescription: Ultra TCSP, Plastic, Laminated, 3.5 x 3.5 x 0.6mm Body, 20 Lead, .5mm Pitch; RoHS: Y; PinCount: 20; Code_JEDEC: MO-208-CCEA-1; ComponentLink1Description: Manufacturer URL; ComponentLink1URL: http://www.national.com/; ComponentLink2Description: LMX2433 Datasheet; ComponentLink2URL: http://www.national.com/ds/LM/LMX2433.pdf; ComponentLink3Description: LMX2433 Web Page; ComponentLink3URL: http://www.national.com/pf/LM/LMX2433.html; ComponentLink4Description: SLE20A Package Page; ComponentLink4URL: http://www.national.com/packaging/folders/sle20a.html
footprint SLE20A (PQFN, 20-Leads, Body 3.5x3.5mm, Pitch 0.5mm, NSC Recommended)
pins: 1 GND (power), 2 FINIF (in), 3 EN (in), 4 CPOUTIF (out), 5 ENOSC (in), 6 OSCOUT/FLOUTIF (out), 7 OSCIN (in), 8 VCC (power), 9 FTEST/LD (out), 10 FLOUTRF (out), 11 GND (power), 12 CPOUTRF (out), 13 GND (power), 14 FINRF (in), 15 ~{FINRF} (in), 16 VCC (power), 17 LE (in), 18 CLK (in), 19 DATA (in), 20 VCC (power)

## LMX2433TM
designator U?
3.6 GHz/1.7 GHz PLLatinum Dual High Frequency Synthesizer for RF Personal Communications, 20-pin TSSOP; PartNumber: LMX2433TM; Manufacturer: National Semiconductor; PackageTopMarking: NSUZXYTT*LMX2433*TMDD; PowerWise: N; CompType: Interface IC; High-Reliability: Y; DatasheetVersion: May-2003; PackageVersion: revE, Mar-2003; PackageReference: MTC20; PackageDescription: Molded TSSOP, Jedec, 6.5 x 4.4 x 0.9mm Body, 20 Lead, 0.65mm Pitch; RoHS: N; PinCount: 20; Code_JEDEC: MO-153-AC; ComponentLink1Description: Manufacturer URL; ComponentLink1URL: http://www.national.com/; ComponentLink2Description: LMX2433 Datasheet; ComponentLink2URL: http://www.national.com/ds/LM/LMX2433.pdf; ComponentLink3Description: LMX2433 Web Page; ComponentLink3URL: http://www.national.com/pf/LM/LMX2433.html; ComponentLink4Description: MTC20 Package Page; ComponentLink4URL: http://www.national.com/packaging/folders/mtc20.html
footprint MTC20_N (TSOP, 20-Leads, Body 6.5x4.4mm, Pitch 0.65mm, IPC Medium Density)
footprint MTC20_L (TSOP, 20-Leads, Body 6.5x4.4mm, Pitch 0.65mm, IPC High Density)
footprint MTC20_M (TSOP, 20-Leads, Body 6.5x4.4mm, Pitch 0.65mm, IPC Low Density)
pins: 1 VCC (power), 2 GND (power), 3 FINIF (in), 4 EN (in), 5 CPOUTIF (out), 6 ENOSC (in), 7 OSCOUT/FLOUTIF (out), 8 OSCIN (in), 9 VCC (power), 10 FTEST/LD (out), 11 FLOUTRF (out), 12 GND (power), 13 CPOUTRF (out), 14 GND (power), 15 FINRF (in), 16 ~{FINRF} (in), 17 VCC (power), 18 LE (in), 19 CLK (in), 20 DATA (in)

## LMX2433TM/NOPB
designator U?
3.6 GHz/1.7 GHz PLLatinum Dual High Frequency Synthesizer for RF Personal Communications, 20-pin TSSOP, Pb-Free; PartNumber: LMX2433TM/NOPB; Manufacturer: National Semiconductor; PackageTopMarking: NSUZXYTT*LMX2433*TMDD; PowerWise: N; CompType: Interface IC; High-Reliability: Y; DatasheetVersion: May-2003; PackageVersion: revE, Mar-2003; PackageReference: MTC20; PackageDescription: Molded TSSOP, Jedec, 6.5 x 4.4 x 0.9mm Body, 20 Lead, 0.65mm Pitch; RoHS: Y; PinCount: 20; Code_JEDEC: MO-153-AC; ComponentLink1Description: Manufacturer URL; ComponentLink1URL: http://www.national.com/; ComponentLink2Description: LMX2433 Datasheet; ComponentLink2URL: http://www.national.com/ds/LM/LMX2433.pdf; ComponentLink3Description: LMX2433 Web Page; ComponentLink3URL: http://www.national.com/pf/LM/LMX2433.html; ComponentLink4Description: MTC20 Package Page; ComponentLink4URL: http://www.national.com/packaging/folders/mtc20.html
footprint MTC20_N (TSOP, 20-Leads, Body 6.5x4.4mm, Pitch 0.65mm, IPC Medium Density)
footprint MTC20_L (TSOP, 20-Leads, Body 6.5x4.4mm, Pitch 0.65mm, IPC High Density)
footprint MTC20_M (TSOP, 20-Leads, Body 6.5x4.4mm, Pitch 0.65mm, IPC Low Density)
pins: 1 VCC (power), 2 GND (power), 3 FINIF (in), 4 EN (in), 5 CPOUTIF (out), 6 ENOSC (in), 7 OSCOUT/FLOUTIF (out), 8 OSCIN (in), 9 VCC (power), 10 FTEST/LD (out), 11 FLOUTRF (out), 12 GND (power), 13 CPOUTRF (out), 14 GND (power), 15 FINRF (in), 16 ~{FINRF} (in), 17 VCC (power), 18 LE (in), 19 CLK (in), 20 DATA (in)

## LMX2434SLEX
designator U?
5.0 GHz/2.5 GHz PLLatinum Low Power Dual Frequency Synthesizer for RF Personal Communications, 20-pin Laminate UCSP; PartNumber: LMX2434SLEX; Manufacturer: National Semiconductor; PackageTopMarking: NSXYTT*X2434*SLE; PowerWise: N; CompType: Interface IC; High-Reliability: Y; DatasheetVersion: May-2003; PackageVersion: revA, Jun-2001; PackageReference: SLE20A; PackageDescription: Ultra TCSP, Plastic, Laminated, 3.5 x 3.5 x 0.6mm Body, 20 Lead, .5mm Pitch; RoHS: N; PinCount: 20; Code_JEDEC: MO-208-CCEA-1; ComponentLink1Description: Manufacturer URL; ComponentLink1URL: http://www.national.com/; ComponentLink2Description: LMX2434 Datasheet; ComponentLink2URL: http://www.national.com/ds/LM/LMX2434.pdf; ComponentLink3Description: LMX2434 Web Page; ComponentLink3URL: http://www.national.com/pf/LM/LMX2434.html; ComponentLink4Description: SLE20A Package Page; ComponentLink4URL: http://www.national.com/packaging/folders/sle20a.html
footprint SLE20A (PQFN, 20-Leads, Body 3.5x3.5mm, Pitch 0.5mm, NSC Recommended)
pins: 1 GND (power), 2 FINIF (in), 3 EN (in), 4 CPOUTIF (out), 5 ENOSC (in), 6 OSCOUT/FLOUTIF (out), 7 OSCIN (in), 8 VCC (power), 9 FTEST/LD (out), 10 FLOUTRF (out), 11 GND (power), 12 CPOUTRF (out), 13 GND (power), 14 FINRF (in), 15 ~{FINRF} (in), 16 VCC (power), 17 LE (in), 18 CLK (in), 19 DATA (in), 20 VCC (power)

## LMX2434SLEX/NOPB
designator U?
5.0 GHz/2.5 GHz PLLatinum Low Power Dual Frequency Synthesizer for RF Personal Communications, 20-pin Laminate UCSP, Pb-Free; PartNumber: LMX2434SLEX/NOPB; Manufacturer: National Semiconductor; PackageTopMarking: NSXYTT*X2434*SLE; PowerWise: N; CompType: Interface IC; High-Reliability: Y; DatasheetVersion: May-2003; PackageVersion: revA, Jun-2001; PackageReference: SLE20A; PackageDescription: Ultra TCSP, Plastic, Laminated, 3.5 x 3.5 x 0.6mm Body, 20 Lead, .5mm Pitch; RoHS: Y; PinCount: 20; Code_JEDEC: MO-208-CCEA-1; ComponentLink1Description: Manufacturer URL; ComponentLink1URL: http://www.national.com/; ComponentLink2Description: LMX2434 Datasheet; ComponentLink2URL: http://www.national.com/ds/LM/LMX2434.pdf; ComponentLink3Description: LMX2434 Web Page; ComponentLink3URL: http://www.national.com/pf/LM/LMX2434.html; ComponentLink4Description: SLE20A Package Page; ComponentLink4URL: http://www.national.com/packaging/folders/sle20a.html
footprint SLE20A (PQFN, 20-Leads, Body 3.5x3.5mm, Pitch 0.5mm, NSC Recommended)
pins: 1 GND (power), 2 FINIF (in), 3 EN (in), 4 CPOUTIF (out), 5 ENOSC (in), 6 OSCOUT/FLOUTIF (out), 7 OSCIN (in), 8 VCC (power), 9 FTEST/LD (out), 10 FLOUTRF (out), 11 GND (power), 12 CPOUTRF (out), 13 GND (power), 14 FINRF (in), 15 ~{FINRF} (in), 16 VCC (power), 17 LE (in), 18 CLK (in), 19 DATA (in), 20 VCC (power)

## LMX2434TM
designator U?
5.0 GHz/2.5 GHz PLLatinum Low Power Dual Frequency Synthesizer for RF Personal Communications, 20-pin TSSOP; PartNumber: LMX2434TM; Manufacturer: National Semiconductor; PackageTopMarking: NSUZXYTT*LMX2434*TMDD; PowerWise: N; CompType: Interface IC; High-Reliability: Y; DatasheetVersion: May-2003; PackageVersion: revE, Mar-2003; PackageReference: MTC20; PackageDescription: Molded TSSOP, Jedec, 6.5 x 4.4 x 0.9mm Body, 20 Lead, 0.65mm Pitch; RoHS: N; PinCount: 20; Code_JEDEC: MO-153-AC; ComponentLink1Description: Manufacturer URL; ComponentLink1URL: http://www.national.com/; ComponentLink2Description: LMX2434 Datasheet; ComponentLink2URL: http://www.national.com/ds/LM/LMX2434.pdf; ComponentLink3Description: LMX2434 Web Page; ComponentLink3URL: http://www.national.com/pf/LM/LMX2434.html; ComponentLink4Description: MTC20 Package Page; ComponentLink4URL: http://www.national.com/packaging/folders/mtc20.html
footprint MTC20_N (TSOP, 20-Leads, Body 6.5x4.4mm, Pitch 0.65mm, IPC Medium Density)
footprint MTC20_L (TSOP, 20-Leads, Body 6.5x4.4mm, Pitch 0.65mm, IPC High Density)
footprint MTC20_M (TSOP, 20-Leads, Body 6.5x4.4mm, Pitch 0.65mm, IPC Low Density)
pins: 1 VCC (power), 2 GND (power), 3 FINIF (in), 4 EN (in), 5 CPOUTIF (out), 6 ENOSC (in), 7 OSCOUT/FLOUTIF (out), 8 OSCIN (in), 9 VCC (power), 10 FTEST/LD (out), 11 FLOUTRF (out), 12 GND (power), 13 CPOUTRF (out), 14 GND (power), 15 FINRF (in), 16 ~{FINRF} (in), 17 VCC (power), 18 LE (in), 19 CLK (in), 20 DATA (in)

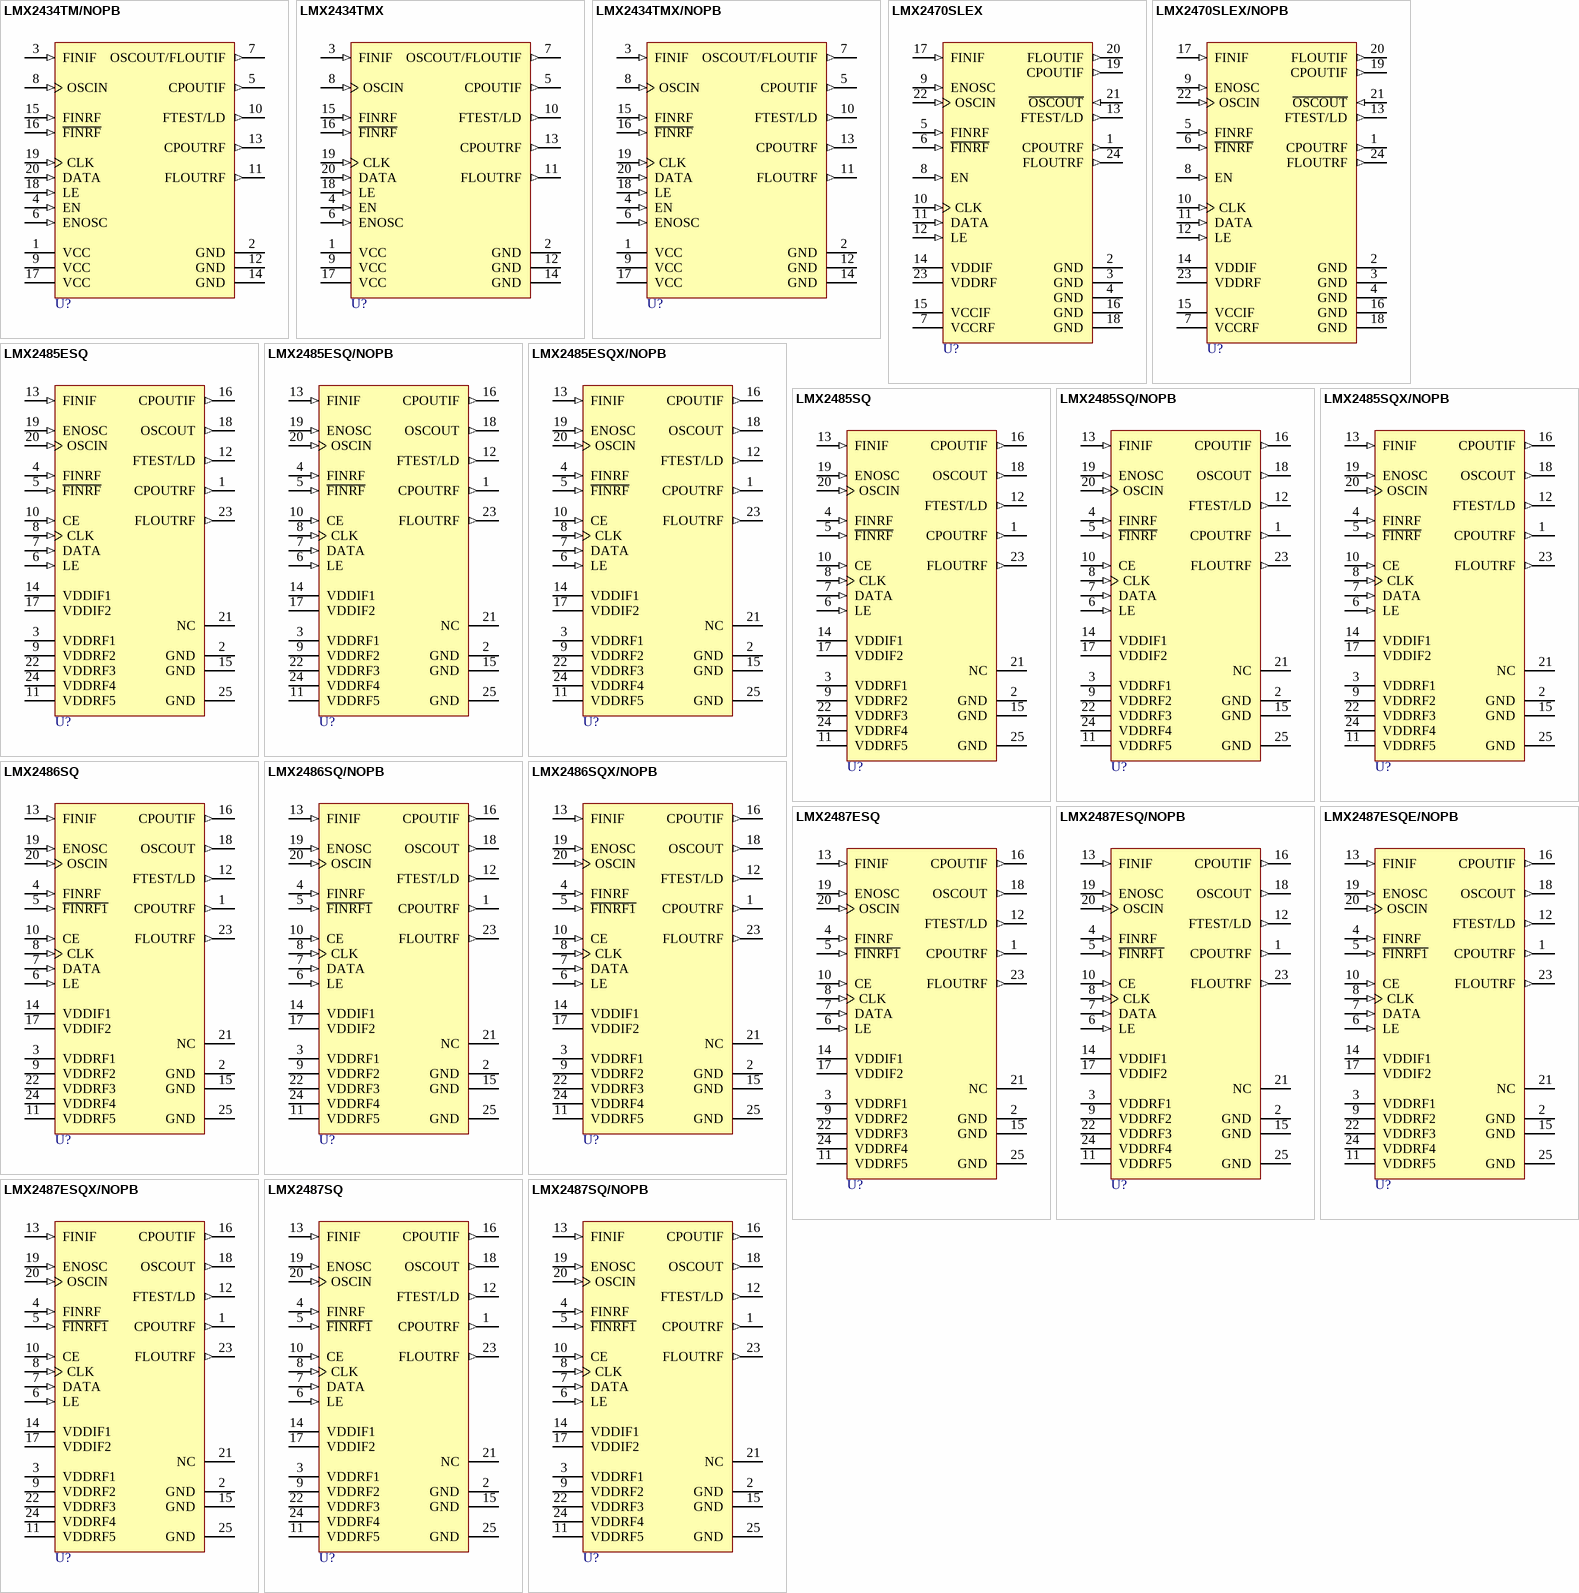
[diagram p104: symbols LMX2434TM/NOPB to LMX2487SQ/NOPB]

## LMX2434TM/NOPB
designator U?
5.0 GHz/2.5 GHz PLLatinum Low Power Dual Frequency Synthesizer for RF Personal Communications, 20-pin TSSOP, Pb-Free; PartNumber: LMX2434TM/NOPB; Manufacturer: National Semiconductor; PackageTopMarking: NSUZXYTT*LMX2434*TMDD; PowerWise: N; CompType: Interface IC; High-Reliability: Y; DatasheetVersion: May-2003; PackageVersion: revE, Mar-2003; PackageReference: MTC20; PackageDescription: Molded TSSOP, Jedec, 6.5 x 4.4 x 0.9mm Body, 20 Lead, 0.65mm Pitch; RoHS: Y; PinCount: 20; Code_JEDEC: MO-153-AC; ComponentLink1Description: Manufacturer URL; ComponentLink1URL: http://www.national.com/; ComponentLink2Description: LMX2434 Datasheet; ComponentLink2URL: http://www.national.com/ds/LM/LMX2434.pdf; ComponentLink3Description: LMX2434 Web Page; ComponentLink3URL: http://www.national.com/pf/LM/LMX2434.html; ComponentLink4Description: MTC20 Package Page; ComponentLink4URL: http://www.national.com/packaging/folders/mtc20.html
footprint MTC20_N (TSOP, 20-Leads, Body 6.5x4.4mm, Pitch 0.65mm, IPC Medium Density)
footprint MTC20_L (TSOP, 20-Leads, Body 6.5x4.4mm, Pitch 0.65mm, IPC High Density)
footprint MTC20_M (TSOP, 20-Leads, Body 6.5x4.4mm, Pitch 0.65mm, IPC Low Density)
pins: 1 VCC (power), 2 GND (power), 3 FINIF (in), 4 EN (in), 5 CPOUTIF (out), 6 ENOSC (in), 7 OSCOUT/FLOUTIF (out), 8 OSCIN (in), 9 VCC (power), 10 FTEST/LD (out), 11 FLOUTRF (out), 12 GND (power), 13 CPOUTRF (out), 14 GND (power), 15 FINRF (in), 16 ~{FINRF} (in), 17 VCC (power), 18 LE (in), 19 CLK (in), 20 DATA (in)

## LMX2434TMX
designator U?
5.0 GHz/2.5 GHz PLLatinum Low Power Dual Frequency Synthesizer for RF Personal Communications, 20-pin TSSOP; PartNumber: LMX2434TMX; Manufacturer: National Semiconductor; PackageTopMarking: NSUZXYTT*LMX2434*TMDD; PowerWise: N; CompType: Interface IC; High-Reliability: Y; DatasheetVersion: May-2003; PackageVersion: revE, Mar-2003; PackageReference: MTC20; PackageDescription: Molded TSSOP, Jedec, 6.5 x 4.4 x 0.9mm Body, 20 Lead, 0.65mm Pitch; RoHS: N; PinCount: 20; Code_JEDEC: MO-153-AC; ComponentLink1Description: Manufacturer URL; ComponentLink1URL: http://www.national.com/; ComponentLink2Description: LMX2434 Datasheet; ComponentLink2URL: http://www.national.com/ds/LM/LMX2434.pdf; ComponentLink3Description: LMX2434 Web Page; ComponentLink3URL: http://www.national.com/pf/LM/LMX2434.html; ComponentLink4Description: MTC20 Package Page; ComponentLink4URL: http://www.national.com/packaging/folders/mtc20.html
footprint MTC20_N (TSOP, 20-Leads, Body 6.5x4.4mm, Pitch 0.65mm, IPC Medium Density)
footprint MTC20_L (TSOP, 20-Leads, Body 6.5x4.4mm, Pitch 0.65mm, IPC High Density)
footprint MTC20_M (TSOP, 20-Leads, Body 6.5x4.4mm, Pitch 0.65mm, IPC Low Density)
pins: 1 VCC (power), 2 GND (power), 3 FINIF (in), 4 EN (in), 5 CPOUTIF (out), 6 ENOSC (in), 7 OSCOUT/FLOUTIF (out), 8 OSCIN (in), 9 VCC (power), 10 FTEST/LD (out), 11 FLOUTRF (out), 12 GND (power), 13 CPOUTRF (out), 14 GND (power), 15 FINRF (in), 16 ~{FINRF} (in), 17 VCC (power), 18 LE (in), 19 CLK (in), 20 DATA (in)

## LMX2434TMX/NOPB
designator U?
5.0 GHz/2.5 GHz PLLatinum Low Power Dual Frequency Synthesizer for RF Personal Communications, 20-pin TSSOP, Pb-Free; PartNumber: LMX2434TMX/NOPB; Manufacturer: National Semiconductor; PackageTopMarking: NSUZXYTT*LMX2434*TMDD; PowerWise: N; CompType: Interface IC; High-Reliability: Y; DatasheetVersion: May-2003; PackageVersion: revE, Mar-2003; PackageReference: MTC20; PackageDescription: Molded TSSOP, Jedec, 6.5 x 4.4 x 0.9mm Body, 20 Lead, 0.65mm Pitch; RoHS: Y; PinCount: 20; Code_JEDEC: MO-153-AC; ComponentLink1Description: Manufacturer URL; ComponentLink1URL: http://www.national.com/; ComponentLink2Description: LMX2434 Datasheet; ComponentLink2URL: http://www.national.com/ds/LM/LMX2434.pdf; ComponentLink3Description: LMX2434 Web Page; ComponentLink3URL: http://www.national.com/pf/LM/LMX2434.html; ComponentLink4Description: MTC20 Package Page; ComponentLink4URL: http://www.national.com/packaging/folders/mtc20.html
footprint MTC20_N (TSOP, 20-Leads, Body 6.5x4.4mm, Pitch 0.65mm, IPC Medium Density)
footprint MTC20_L (TSOP, 20-Leads, Body 6.5x4.4mm, Pitch 0.65mm, IPC High Density)
footprint MTC20_M (TSOP, 20-Leads, Body 6.5x4.4mm, Pitch 0.65mm, IPC Low Density)
pins: 1 VCC (power), 2 GND (power), 3 FINIF (in), 4 EN (in), 5 CPOUTIF (out), 6 ENOSC (in), 7 OSCOUT/FLOUTIF (out), 8 OSCIN (in), 9 VCC (power), 10 FTEST/LD (out), 11 FLOUTRF (out), 12 GND (power), 13 CPOUTRF (out), 14 GND (power), 15 FINRF (in), 16 ~{FINRF} (in), 17 VCC (power), 18 LE (in), 19 CLK (in), 20 DATA (in)

## LMX2470SLEX
designator U?
2.6 GHz Delta-Sigma Fractional-N PLL with 800 MHz Integer-N PLL, 24-pin Laminate UCSP; PartNumber: LMX2470SLEX; Manufacturer: National Semiconductor; PackageTopMarking: NSXYTT*X2470*SLE; PowerWise: N; CompType: Interface IC; High-Reliability: Y; DatasheetVersion: Apr-2003; PackageVersion: revA, Jun-2001; PackageReference: SLE24A; PackageDescription: Ultra TCSP, Plastic, Laminated, 3.5 x 4.5 x 0.6mm Body, 24 Lead, .5mm Pitch; RoHS: N; PinCount: 24; ComponentLink1Description: Manufacturer URL; ComponentLink1URL: http://www.national.com/; ComponentLink2Description: LMX2470 Datasheet; ComponentLink2URL: http://www.national.com/ds/LM/LMX2470.pdf; ComponentLink3Description: LMX2470 Web Page; ComponentLink3URL: http://www.national.com/pf/LM/LMX2470.html; ComponentLink4Description: SLE24A Package Page; ComponentLink4URL: http://www.national.com/packaging/folders/sle24a.html
footprint SLE24A (PQFN, 24-Leads (9x3 pads), Body 3.5x4.5mm, Pitch 0.5mm, NSC Recommended)
pins: 1 CPOUTRF (out), 2 GND (power), 3 GND (power), 4 GND (power), 5 FINRF (in), 6 ~{FINRF} (in), 7 VCCRF (power), 8 EN (in), 9 ENOSC (in), 10 CLK (in), 11 DATA (in), 12 LE (in), 13 FTEST/LD (out), 14 VDDIF (power), 15 VCCIF (power), 16 GND (power), 17 FINIF (in), 18 GND (power), 19 CPOUTIF (out), 20 FLOUTIF (out), 21 ~{OSCOUT} (in), 22 OSCIN (in), 23 VDDRF (power), 24 FLOUTRF (out)